# Altium integrated library ISSI SRAM Synchronous SRAM No-Wait(ZBT).IntLib: 1246 symbols (part 43 of 152)
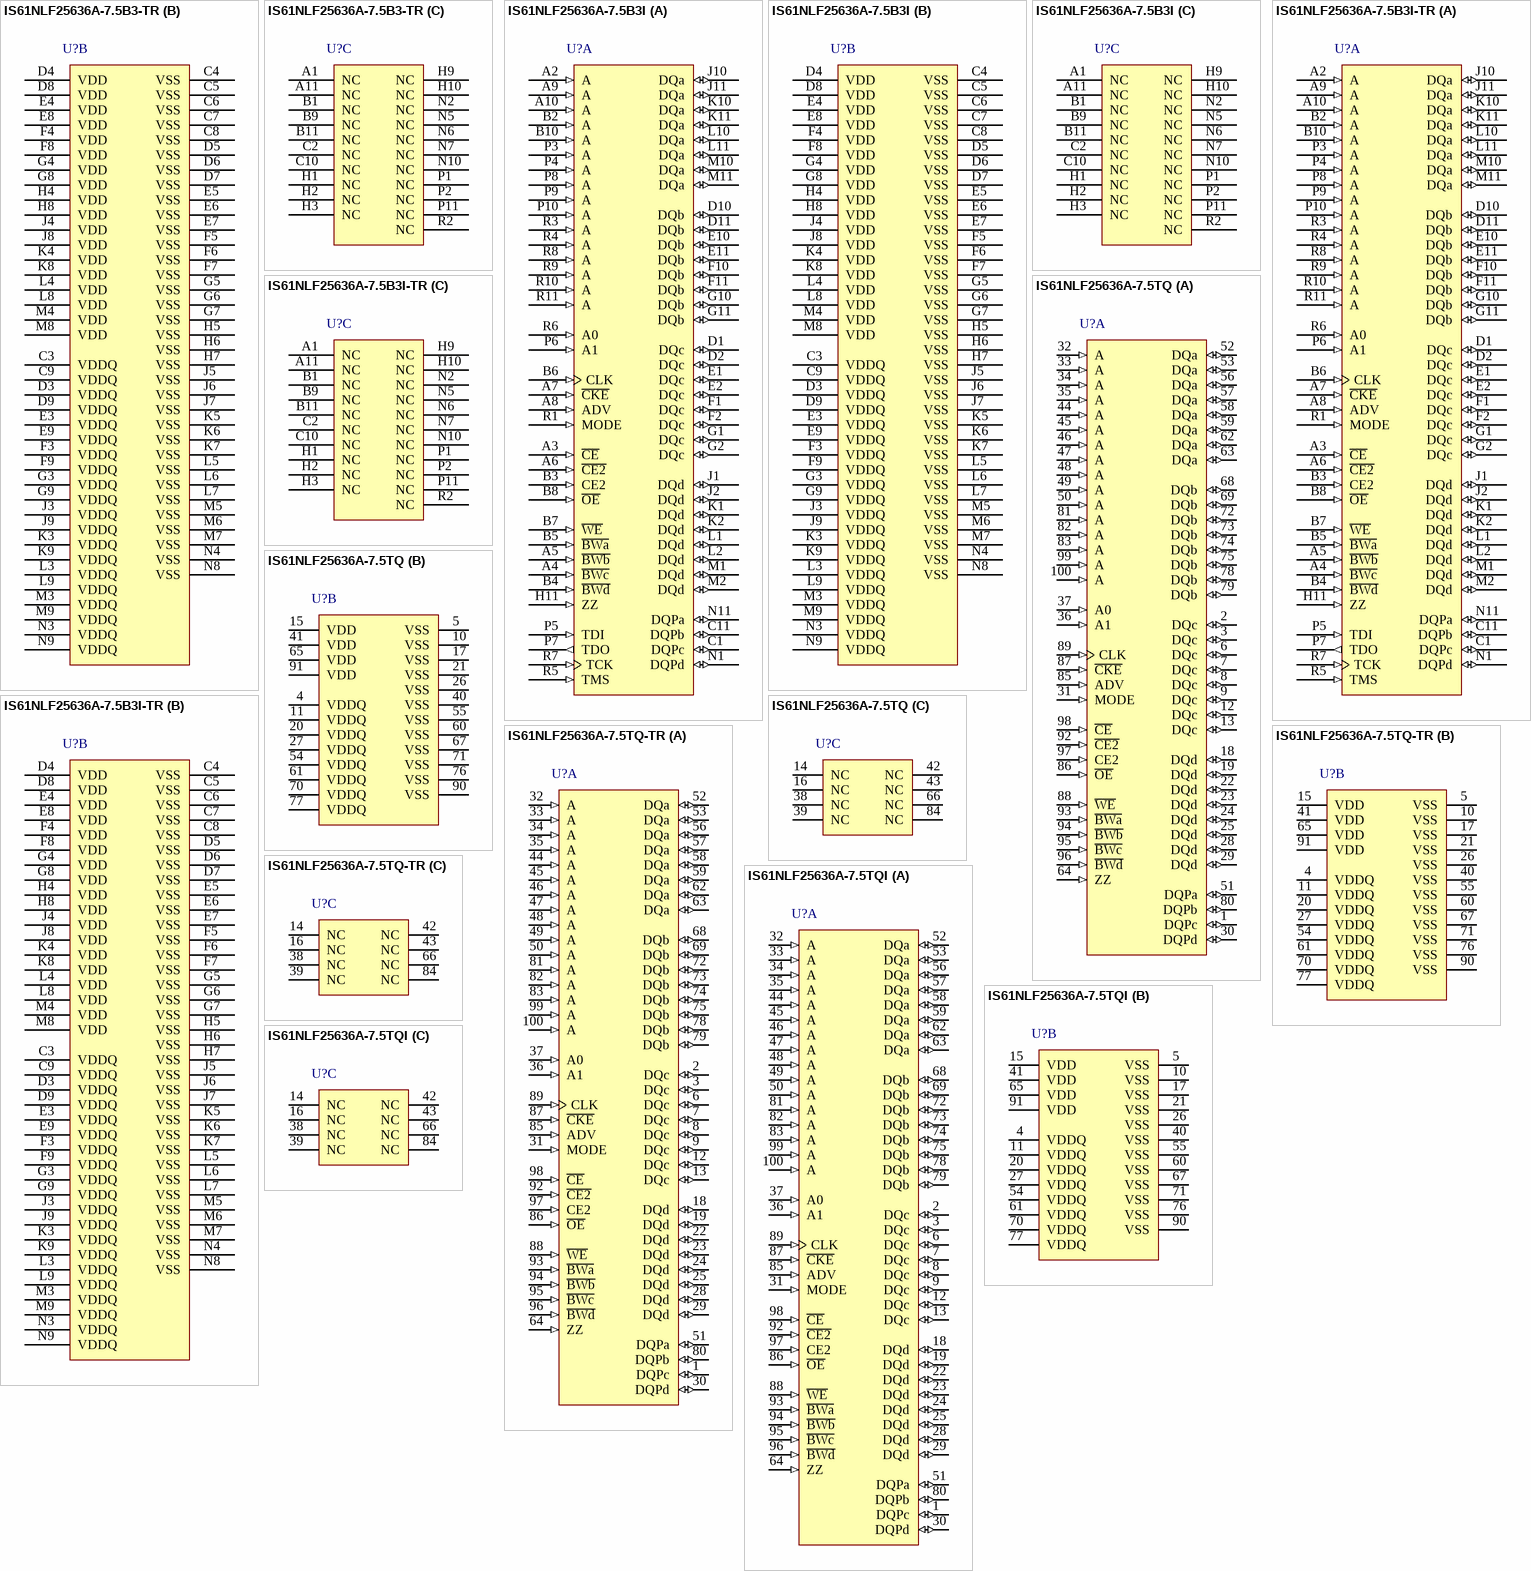
[diagram p259: symbols IS61NLF25636A-7.5B3-TR to IS61NLF25636A-7.5TQI]

## IS61NLF25636A-7.5TQ
designator U?
9 M Flow Through 'No Wait' State Bus SRAM, 256 K x 36, 0 to 70 degC, 100-Pin QFP (TQFP-100); Manufacturer: Integrated Silicon Solution Inc (ISSI); PartNumber: IS61NLF25636A-7.5TQ; Density: 9M; Packing: Tube / Tray; Vcc: 3.3 V; VccQ: 2.5 / 3.3 V; DatasheetVersion: Rev. F; PackageVersion: Rev. F, 09/2009; PackageReference: TQFP-100; PackageDescription: 100-Pin 20 x 14 mm LQFP, Pitch 0.65 mm; Organization: 256Kx36; Mounting Technology: Surface Mount; ComponentLink1Description: Manufacturer URL; ComponentLink1URL: http://www.issi.com/US/index.shtml; ComponentLink2Description: Datasheet; ComponentLink2URL: http://www.issi.com/WW/pdf/61NLF_NVF25636A_51218A.pdf; ComponentLink3Description: Package Specification; ComponentLink3URL: http://www.issi.com/WW/pdf/61VPS_LPS25636A_51218A.pdf
footprint ISSI-TQFP-100-20000X14000DE_N (QFP, 100-Leads, Body 20x14mm, Pitch 0.65mm, IPC Medium Density)
part A pins: 1 DQPc (io) "Parity Data I/O", 2 DQc (io) "Synchronous Data Input/Output", 3 DQc (io) "Synchronous Data Input/Output", 6 DQc (io) "Synchronous Data Input/Output", 7 DQc (io) "Synchronous Data Input/Output", 8 DQc (io) "Synchronous Data Input/Output", 9 DQc (io) "Synchronous Data Input/Output", 12 DQc (io) "Synchronous Data Input/Output", 13 DQc (io) "Synchronous Data Input/Output", 18 DQd (io) "Synchronous Data Input/Output", 19 DQd (io) "Synchronous Data Input/Output", 22 DQd (io) "Synchronous Data Input/Output", 23 DQd (io) "Synchronous Data Input/Output", 24 DQd (io) "Synchronous Data Input/Output", 25 DQd (io) "Synchronous Data Input/Output", 28 DQd (io) "Synchronous Data Input/Output", 29 DQd (io) "Synchronous Data Input/Output", 30 DQPd (io) "Parity Data I/O", 31 MODE (in) "Burst Sequence Selection", 32 A (in) "Synchronous Address Inputs", 33 A (in) "Synchronous Address Inputs", 34 A (in) "Synchronous Address Inputs", 35 A (in) "Synchronous Address Inputs", 36 A1 (in) "Synchronous Address Inputs. These pins must tied to the two LSBs of the address bus.", 37 A0 (in) "Synchronous Address Inputs. These pins must tied to the two LSBs of the address bus.", 44 A (in) "Synchronous Address Inputs", 45 A (in) "Synchronous Address Inputs", 46 A (in) "Synchronous Address Inputs", 47 A (in) "Synchronous Address Inputs", 48 A (in) "Synchronous Address Inputs", 49 A (in) "Synchronous Address Inputs", 50 A (in) "Synchronous Address Inputs", 51 DQPa (io) "Parity Data I/O", 52 DQa (io) "Synchronous Data Input/Output", 53 DQa (io) "Synchronous Data Input/Output", 56 DQa (io) "Synchronous Data Input/Output", 57 DQa (io) "Synchronous Data Input/Output", 58 DQa (io) "Synchronous Data Input/Output", 59 DQa (io) "Synchronous Data Input/Output", 62 DQa (io) "Synchronous Data Input/Output", 63 DQa (io) "Synchronous Data Input/Output", 64 ZZ (in) "Snooze Enable", 68 DQb (io) "Synchronous Data Input/Output", 69 DQb (io) "Synchronous Data Input/Output", 72 DQb (io) "Synchronous Data Input/Output", 73 DQb (io) "Synchronous Data Input/Output", 74 DQb (io) "Synchronous Data Input/Output", 75 DQb (io) "Synchronous Data Input/Output", 78 DQb (io) "Synchronous Data Input/Output", 79 DQb (io) "Synchronous Data Input/Output", 80 DQPb (io) "Parity Data I/O", 81 A (in) "Synchronous Address Inputs", 82 A (in) "Synchronous Address Inputs", 83 A (in) "Synchronous Address Inputs", 85 ADV (in) "Synchronous Burst Address Advance", 86 ~{OE} (in) "Output Enable", 87 ~{CKE} (in) "Clock Enable", 88 ~{WE} (in) "Write Enable", 89 CLK (in) "Synchronous Clock", 92 ~{CE2} (in) "Synchronous Chip Enable", 93 ~{BWa} (in) "Synchronous Byte Write Enable", 94 ~{BWb} (in) "Synchronous Byte Write Enable", 95 ~{BWc} (in) "Synchronous Byte Write Enable", 96 ~{BWd} (in) "Synchronous Byte Write Enable", 97 CE2 (in) "Synchronous Chip Enable", 98 ~{CE} (in) "Synchronous Chip Enable", 99 A (in) "Synchronous Address Inputs", 100 A (in) "Synchronous Address Inputs"
part B pins: 4 VDDQ (power) "Isolated Output Buffer Supply: +3.3V/2.5V", 5 VSS (power), 10 VSS (power), 11 VDDQ (power) "Isolated Output Buffer Supply: +3.3V/2.5V", 15 VDD (power) "+3.3V/2.5V Power Supply", 17 VSS (power), 20 VDDQ (power) "Isolated Output Buffer Supply: +3.3V/2.5V", 21 VSS (power), 26 VSS (power), 27 VDDQ (power) "Isolated Output Buffer Supply: +3.3V/2.5V", 40 VSS (power), 41 VDD (power) "+3.3V/2.5V Power Supply", 54 VDDQ (power) "Isolated Output Buffer Supply: +3.3V/2.5V", 55 VSS (power), 60 VSS (power), 61 VDDQ (power) "Isolated Output Buffer Supply: +3.3V/2.5V", 65 VDD (power) "+3.3V/2.5V Power Supply", 67 VSS (power), 70 VDDQ (power) "Isolated Output Buffer Supply: +3.3V/2.5V", 71 VSS (power), 76 VSS (power), 77 VDDQ (power) "Isolated Output Buffer Supply: +3.3V/2.5V", 90 VSS (power), 91 VDD (power) "+3.3V/2.5V Power Supply"
part C pins: 14 NC "Not Connected", 16 NC "Not Connected", 38 NC "Not Connected", 39 NC "Not Connected", 42 NC "Not Connected", 43 NC "Not Connected", 66 NC "Not Connected", 84 NC "Not Connected"

## IS61NLF25636A-7.5TQ-TR
designator U?
9 M Flow Through 'No Wait' State Bus SRAM, 256 K x 36, 0 to 70 degC, 100-Pin QFP (TQFP-100); Manufacturer: Integrated Silicon Solution Inc (ISSI); PartNumber: IS61NLF25636A-7.5TQ-TR; Density: 9M; Packing: Tape & Reel; Vcc: 3.3 V; VccQ: 2.5 / 3.3 V; DatasheetVersion: Rev. F; PackageVersion: Rev. F, 09/2009; PackageReference: TQFP-100; PackageDescription: 100-Pin 20 x 14 mm LQFP, Pitch 0.65 mm; Organization: 256Kx36; Mounting Technology: Surface Mount; ComponentLink1Description: Manufacturer URL; ComponentLink1URL: http://www.issi.com/US/index.shtml; ComponentLink2Description: Datasheet; ComponentLink2URL: http://www.issi.com/WW/pdf/61NLF_NVF25636A_51218A.pdf; ComponentLink3Description: Package Specification; ComponentLink3URL: http://www.issi.com/WW/pdf/61VPS_LPS25636A_51218A.pdf
footprint ISSI-TQFP-100-20000X14000DE_N (QFP, 100-Leads, Body 20x14mm, Pitch 0.65mm, IPC Medium Density)
part A pins: 1 DQPc (io) "Parity Data I/O", 2 DQc (io) "Synchronous Data Input/Output", 3 DQc (io) "Synchronous Data Input/Output", 6 DQc (io) "Synchronous Data Input/Output", 7 DQc (io) "Synchronous Data Input/Output", 8 DQc (io) "Synchronous Data Input/Output", 9 DQc (io) "Synchronous Data Input/Output", 12 DQc (io) "Synchronous Data Input/Output", 13 DQc (io) "Synchronous Data Input/Output", 18 DQd (io) "Synchronous Data Input/Output", 19 DQd (io) "Synchronous Data Input/Output", 22 DQd (io) "Synchronous Data Input/Output", 23 DQd (io) "Synchronous Data Input/Output", 24 DQd (io) "Synchronous Data Input/Output", 25 DQd (io) "Synchronous Data Input/Output", 28 DQd (io) "Synchronous Data Input/Output", 29 DQd (io) "Synchronous Data Input/Output", 30 DQPd (io) "Parity Data I/O", 31 MODE (in) "Burst Sequence Selection", 32 A (in) "Synchronous Address Inputs", 33 A (in) "Synchronous Address Inputs", 34 A (in) "Synchronous Address Inputs", 35 A (in) "Synchronous Address Inputs", 36 A1 (in) "Synchronous Address Inputs. These pins must tied to the two LSBs of the address bus.", 37 A0 (in) "Synchronous Address Inputs. These pins must tied to the two LSBs of the address bus.", 44 A (in) "Synchronous Address Inputs", 45 A (in) "Synchronous Address Inputs", 46 A (in) "Synchronous Address Inputs", 47 A (in) "Synchronous Address Inputs", 48 A (in) "Synchronous Address Inputs", 49 A (in) "Synchronous Address Inputs", 50 A (in) "Synchronous Address Inputs", 51 DQPa (io) "Parity Data I/O", 52 DQa (io) "Synchronous Data Input/Output", 53 DQa (io) "Synchronous Data Input/Output", 56 DQa (io) "Synchronous Data Input/Output", 57 DQa (io) "Synchronous Data Input/Output", 58 DQa (io) "Synchronous Data Input/Output", 59 DQa (io) "Synchronous Data Input/Output", 62 DQa (io) "Synchronous Data Input/Output", 63 DQa (io) "Synchronous Data Input/Output", 64 ZZ (in) "Snooze Enable", 68 DQb (io) "Synchronous Data Input/Output", 69 DQb (io) "Synchronous Data Input/Output", 72 DQb (io) "Synchronous Data Input/Output", 73 DQb (io) "Synchronous Data Input/Output", 74 DQb (io) "Synchronous Data Input/Output", 75 DQb (io) "Synchronous Data Input/Output", 78 DQb (io) "Synchronous Data Input/Output", 79 DQb (io) "Synchronous Data Input/Output", 80 DQPb (io) "Parity Data I/O", 81 A (in) "Synchronous Address Inputs", 82 A (in) "Synchronous Address Inputs", 83 A (in) "Synchronous Address Inputs", 85 ADV (in) "Synchronous Burst Address Advance", 86 ~{OE} (in) "Output Enable", 87 ~{CKE} (in) "Clock Enable", 88 ~{WE} (in) "Write Enable", 89 CLK (in) "Synchronous Clock", 92 ~{CE2} (in) "Synchronous Chip Enable", 93 ~{BWa} (in) "Synchronous Byte Write Enable", 94 ~{BWb} (in) "Synchronous Byte Write Enable", 95 ~{BWc} (in) "Synchronous Byte Write Enable", 96 ~{BWd} (in) "Synchronous Byte Write Enable", 97 CE2 (in) "Synchronous Chip Enable", 98 ~{CE} (in) "Synchronous Chip Enable", 99 A (in) "Synchronous Address Inputs", 100 A (in) "Synchronous Address Inputs"
part B pins: 4 VDDQ (power) "Isolated Output Buffer Supply: +3.3V/2.5V", 5 VSS (power), 10 VSS (power), 11 VDDQ (power) "Isolated Output Buffer Supply: +3.3V/2.5V", 15 VDD (power) "+3.3V/2.5V Power Supply", 17 VSS (power), 20 VDDQ (power) "Isolated Output Buffer Supply: +3.3V/2.5V", 21 VSS (power), 26 VSS (power), 27 VDDQ (power) "Isolated Output Buffer Supply: +3.3V/2.5V", 40 VSS (power), 41 VDD (power) "+3.3V/2.5V Power Supply", 54 VDDQ (power) "Isolated Output Buffer Supply: +3.3V/2.5V", 55 VSS (power), 60 VSS (power), 61 VDDQ (power) "Isolated Output Buffer Supply: +3.3V/2.5V", 65 VDD (power) "+3.3V/2.5V Power Supply", 67 VSS (power), 70 VDDQ (power) "Isolated Output Buffer Supply: +3.3V/2.5V", 71 VSS (power), 76 VSS (power), 77 VDDQ (power) "Isolated Output Buffer Supply: +3.3V/2.5V", 90 VSS (power), 91 VDD (power) "+3.3V/2.5V Power Supply"
part C pins: 14 NC "Not Connected", 16 NC "Not Connected", 38 NC "Not Connected", 39 NC "Not Connected", 42 NC "Not Connected", 43 NC "Not Connected", 66 NC "Not Connected", 84 NC "Not Connected"

## IS61NLF25636A-7.5TQI
designator U?
9 M Flow Through 'No Wait' State Bus SRAM, 256 K x 36, -40 to 85 degC, 100-Pin QFP (TQFP-100); Manufacturer: Integrated Silicon Solution Inc (ISSI); PartNumber: IS61NLF25636A-7.5TQI; Density: 9M; Packing: Tube / Tray; Vcc: 3.3 V; VccQ: 2.5 / 3.3 V; DatasheetVersion: Rev. F; PackageVersion: Rev. F, 09/2009; PackageReference: TQFP-100; PackageDescription: 100-Pin 20 x 14 mm LQFP, Pitch 0.65 mm; Supplier 1: Digi-Key; Supplier Part Number 1: IS61NLF25636A-7.5TQI-ND; Supplier 2: Mouser; Supplier Part Number 2: 87061NLF25636A75TQI; Organization: 256Kx36; Mounting Technology: Surface Mount; ComponentLink1Description: Manufacturer URL; ComponentLink1URL: http://www.issi.com/US/index.shtml; ComponentLink2Description: Datasheet; ComponentLink2URL: http://www.issi.com/WW/pdf/61NLF_NVF25636A_51218A.pdf; ComponentLink3Description: Package Specification; ComponentLink3URL: http://www.issi.com/WW/pdf/61VPS_LPS25636A_51218A.pdf
footprint ISSI-TQFP-100-20000X14000DE_N (QFP, 100-Leads, Body 20x14mm, Pitch 0.65mm, IPC Medium Density)
part A pins: 1 DQPc (io) "Parity Data I/O", 2 DQc (io) "Synchronous Data Input/Output", 3 DQc (io) "Synchronous Data Input/Output", 6 DQc (io) "Synchronous Data Input/Output", 7 DQc (io) "Synchronous Data Input/Output", 8 DQc (io) "Synchronous Data Input/Output", 9 DQc (io) "Synchronous Data Input/Output", 12 DQc (io) "Synchronous Data Input/Output", 13 DQc (io) "Synchronous Data Input/Output", 18 DQd (io) "Synchronous Data Input/Output", 19 DQd (io) "Synchronous Data Input/Output", 22 DQd (io) "Synchronous Data Input/Output", 23 DQd (io) "Synchronous Data Input/Output", 24 DQd (io) "Synchronous Data Input/Output", 25 DQd (io) "Synchronous Data Input/Output", 28 DQd (io) "Synchronous Data Input/Output", 29 DQd (io) "Synchronous Data Input/Output", 30 DQPd (io) "Parity Data I/O", 31 MODE (in) "Burst Sequence Selection", 32 A (in) "Synchronous Address Inputs", 33 A (in) "Synchronous Address Inputs", 34 A (in) "Synchronous Address Inputs", 35 A (in) "Synchronous Address Inputs", 36 A1 (in) "Synchronous Address Inputs. These pins must tied to the two LSBs of the address bus.", 37 A0 (in) "Synchronous Address Inputs. These pins must tied to the two LSBs of the address bus.", 44 A (in) "Synchronous Address Inputs", 45 A (in) "Synchronous Address Inputs", 46 A (in) "Synchronous Address Inputs", 47 A (in) "Synchronous Address Inputs", 48 A (in) "Synchronous Address Inputs", 49 A (in) "Synchronous Address Inputs", 50 A (in) "Synchronous Address Inputs", 51 DQPa (io) "Parity Data I/O", 52 DQa (io) "Synchronous Data Input/Output", 53 DQa (io) "Synchronous Data Input/Output", 56 DQa (io) "Synchronous Data Input/Output", 57 DQa (io) "Synchronous Data Input/Output", 58 DQa (io) "Synchronous Data Input/Output", 59 DQa (io) "Synchronous Data Input/Output", 62 DQa (io) "Synchronous Data Input/Output", 63 DQa (io) "Synchronous Data Input/Output", 64 ZZ (in) "Snooze Enable", 68 DQb (io) "Synchronous Data Input/Output", 69 DQb (io) "Synchronous Data Input/Output", 72 DQb (io) "Synchronous Data Input/Output", 73 DQb (io) "Synchronous Data Input/Output", 74 DQb (io) "Synchronous Data Input/Output", 75 DQb (io) "Synchronous Data Input/Output", 78 DQb (io) "Synchronous Data Input/Output", 79 DQb (io) "Synchronous Data Input/Output", 80 DQPb (io) "Parity Data I/O", 81 A (in) "Synchronous Address Inputs", 82 A (in) "Synchronous Address Inputs", 83 A (in) "Synchronous Address Inputs", 85 ADV (in) "Synchronous Burst Address Advance", 86 ~{OE} (in) "Output Enable", 87 ~{CKE} (in) "Clock Enable", 88 ~{WE} (in) "Write Enable", 89 CLK (in) "Synchronous Clock", 92 ~{CE2} (in) "Synchronous Chip Enable", 93 ~{BWa} (in) "Synchronous Byte Write Enable", 94 ~{BWb} (in) "Synchronous Byte Write Enable", 95 ~{BWc} (in) "Synchronous Byte Write Enable", 96 ~{BWd} (in) "Synchronous Byte Write Enable", 97 CE2 (in) "Synchronous Chip Enable", 98 ~{CE} (in) "Synchronous Chip Enable", 99 A (in) "Synchronous Address Inputs", 100 A (in) "Synchronous Address Inputs"
part B pins: 4 VDDQ (power) "Isolated Output Buffer Supply: +3.3V/2.5V", 5 VSS (power), 10 VSS (power), 11 VDDQ (power) "Isolated Output Buffer Supply: +3.3V/2.5V", 15 VDD (power) "+3.3V/2.5V Power Supply", 17 VSS (power), 20 VDDQ (power) "Isolated Output Buffer Supply: +3.3V/2.5V", 21 VSS (power), 26 VSS (power), 27 VDDQ (power) "Isolated Output Buffer Supply: +3.3V/2.5V", 40 VSS (power), 41 VDD (power) "+3.3V/2.5V Power Supply", 54 VDDQ (power) "Isolated Output Buffer Supply: +3.3V/2.5V", 55 VSS (power), 60 VSS (power), 61 VDDQ (power) "Isolated Output Buffer Supply: +3.3V/2.5V", 65 VDD (power) "+3.3V/2.5V Power Supply", 67 VSS (power), 70 VDDQ (power) "Isolated Output Buffer Supply: +3.3V/2.5V", 71 VSS (power), 76 VSS (power), 77 VDDQ (power) "Isolated Output Buffer Supply: +3.3V/2.5V", 90 VSS (power), 91 VDD (power) "+3.3V/2.5V Power Supply"
part C pins: 14 NC "Not Connected", 16 NC "Not Connected", 38 NC "Not Connected", 39 NC "Not Connected", 42 NC "Not Connected", 43 NC "Not Connected", 66 NC "Not Connected", 84 NC "Not Connected"

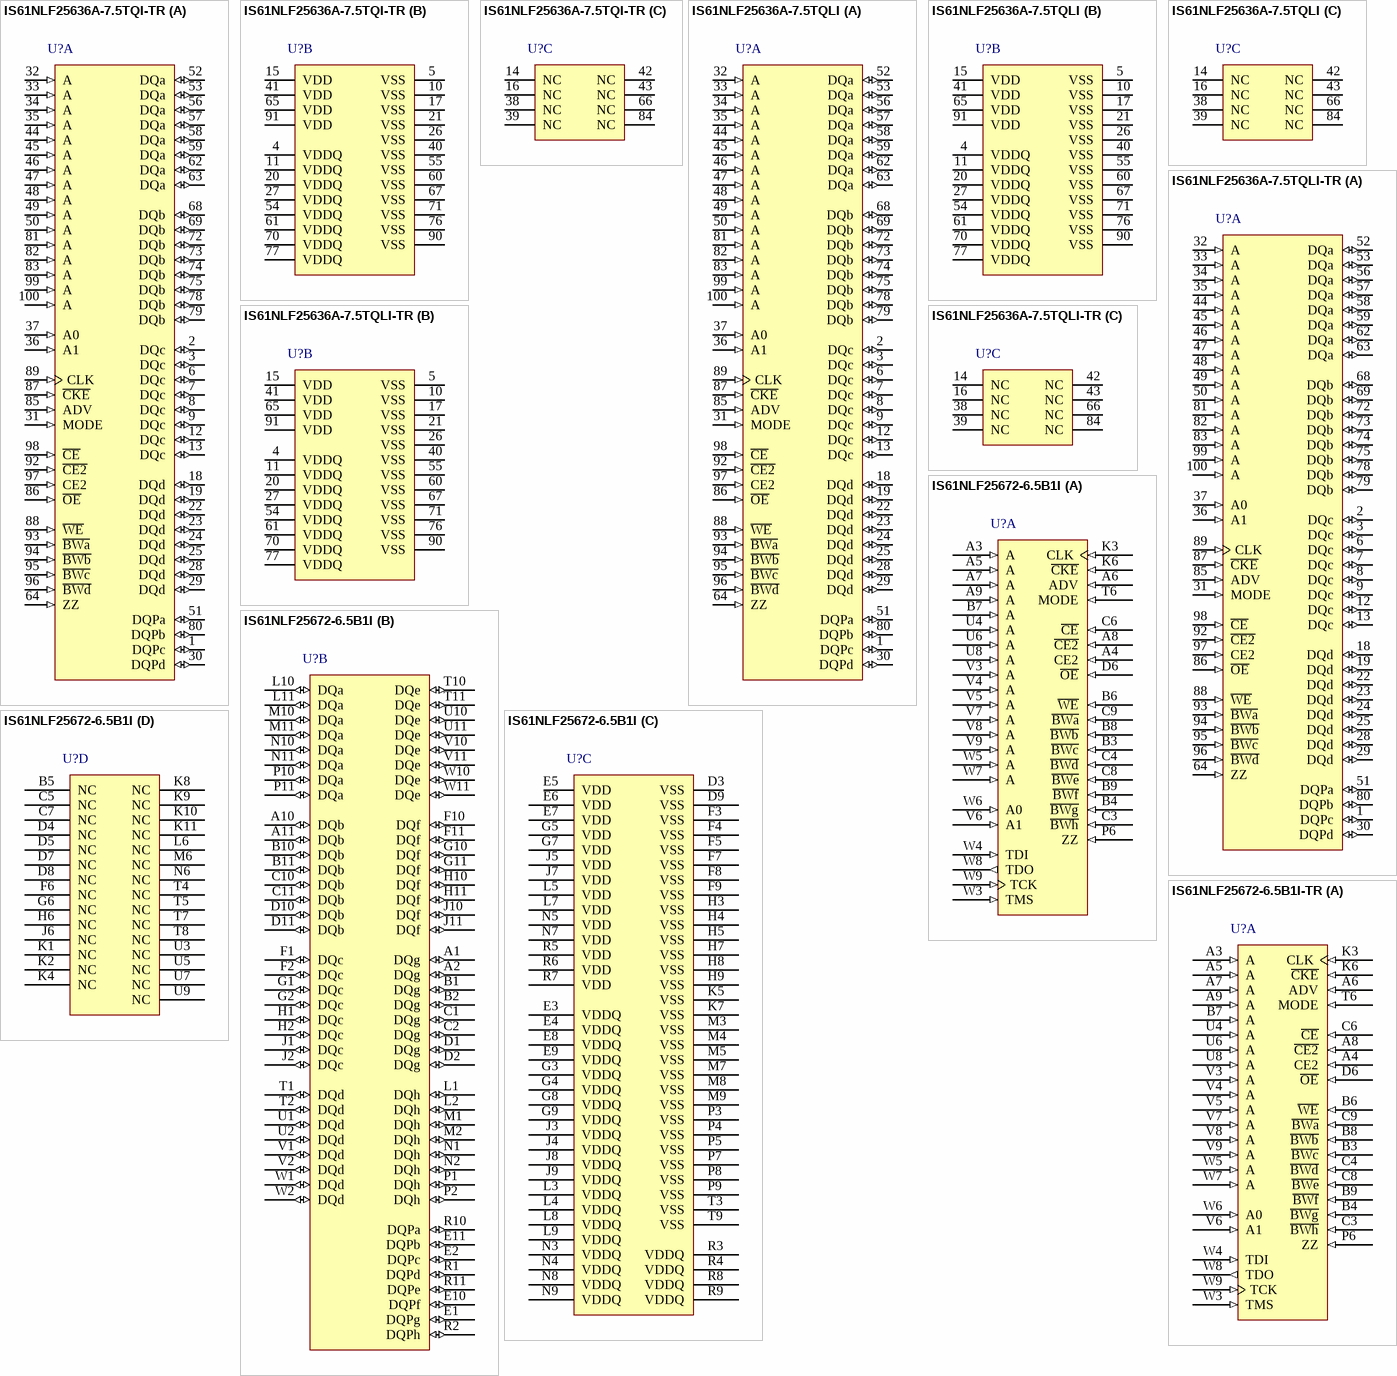
[diagram p43: symbols IS61NLF25636A-7.5TQI-TR to IS61NLF25672-6.5B1I-TR]

## IS61NLF25636A-7.5TQI-TR
designator U?
9 M Flow Through 'No Wait' State Bus SRAM, 256 K x 36, -40 to 85 degC, 100-Pin QFP (TQFP-100); Manufacturer: Integrated Silicon Solution Inc (ISSI); PartNumber: IS61NLF25636A-7.5TQI-TR; Density: 9M; Packing: Tape & Reel; Vcc: 3.3 V; VccQ: 2.5 / 3.3 V; DatasheetVersion: Rev. F; PackageVersion: Rev. F, 09/2009; PackageReference: TQFP-100; PackageDescription: 100-Pin 20 x 14 mm LQFP, Pitch 0.65 mm; Supplier 1: Digi-Key; Supplier Part Number 1: IS61NLF25636A-7.5TQI-TR-ND; Supplier 2: Mouser; Supplier Part Number 2: 87061NLF25636A75TQIT; Organization: 256Kx36; Mounting Technology: Surface Mount; ComponentLink1Description: Manufacturer URL; ComponentLink1URL: http://www.issi.com/US/index.shtml; ComponentLink2Description: Datasheet; ComponentLink2URL: http://www.issi.com/WW/pdf/61NLF_NVF25636A_51218A.pdf; ComponentLink3Description: Package Specification; ComponentLink3URL: http://www.issi.com/WW/pdf/61VPS_LPS25636A_51218A.pdf
footprint ISSI-TQFP-100-20000X14000DE_N (QFP, 100-Leads, Body 20x14mm, Pitch 0.65mm, IPC Medium Density)
part A pins: 1 DQPc (io) "Parity Data I/O", 2 DQc (io) "Synchronous Data Input/Output", 3 DQc (io) "Synchronous Data Input/Output", 6 DQc (io) "Synchronous Data Input/Output", 7 DQc (io) "Synchronous Data Input/Output", 8 DQc (io) "Synchronous Data Input/Output", 9 DQc (io) "Synchronous Data Input/Output", 12 DQc (io) "Synchronous Data Input/Output", 13 DQc (io) "Synchronous Data Input/Output", 18 DQd (io) "Synchronous Data Input/Output", 19 DQd (io) "Synchronous Data Input/Output", 22 DQd (io) "Synchronous Data Input/Output", 23 DQd (io) "Synchronous Data Input/Output", 24 DQd (io) "Synchronous Data Input/Output", 25 DQd (io) "Synchronous Data Input/Output", 28 DQd (io) "Synchronous Data Input/Output", 29 DQd (io) "Synchronous Data Input/Output", 30 DQPd (io) "Parity Data I/O", 31 MODE (in) "Burst Sequence Selection", 32 A (in) "Synchronous Address Inputs", 33 A (in) "Synchronous Address Inputs", 34 A (in) "Synchronous Address Inputs", 35 A (in) "Synchronous Address Inputs", 36 A1 (in) "Synchronous Address Inputs. These pins must tied to the two LSBs of the address bus.", 37 A0 (in) "Synchronous Address Inputs. These pins must tied to the two LSBs of the address bus.", 44 A (in) "Synchronous Address Inputs", 45 A (in) "Synchronous Address Inputs", 46 A (in) "Synchronous Address Inputs", 47 A (in) "Synchronous Address Inputs", 48 A (in) "Synchronous Address Inputs", 49 A (in) "Synchronous Address Inputs", 50 A (in) "Synchronous Address Inputs", 51 DQPa (io) "Parity Data I/O", 52 DQa (io) "Synchronous Data Input/Output", 53 DQa (io) "Synchronous Data Input/Output", 56 DQa (io) "Synchronous Data Input/Output", 57 DQa (io) "Synchronous Data Input/Output", 58 DQa (io) "Synchronous Data Input/Output", 59 DQa (io) "Synchronous Data Input/Output", 62 DQa (io) "Synchronous Data Input/Output", 63 DQa (io) "Synchronous Data Input/Output", 64 ZZ (in) "Snooze Enable", 68 DQb (io) "Synchronous Data Input/Output", 69 DQb (io) "Synchronous Data Input/Output", 72 DQb (io) "Synchronous Data Input/Output", 73 DQb (io) "Synchronous Data Input/Output", 74 DQb (io) "Synchronous Data Input/Output", 75 DQb (io) "Synchronous Data Input/Output", 78 DQb (io) "Synchronous Data Input/Output", 79 DQb (io) "Synchronous Data Input/Output", 80 DQPb (io) "Parity Data I/O", 81 A (in) "Synchronous Address Inputs", 82 A (in) "Synchronous Address Inputs", 83 A (in) "Synchronous Address Inputs", 85 ADV (in) "Synchronous Burst Address Advance", 86 ~{OE} (in) "Output Enable", 87 ~{CKE} (in) "Clock Enable", 88 ~{WE} (in) "Write Enable", 89 CLK (in) "Synchronous Clock", 92 ~{CE2} (in) "Synchronous Chip Enable", 93 ~{BWa} (in) "Synchronous Byte Write Enable", 94 ~{BWb} (in) "Synchronous Byte Write Enable", 95 ~{BWc} (in) "Synchronous Byte Write Enable", 96 ~{BWd} (in) "Synchronous Byte Write Enable", 97 CE2 (in) "Synchronous Chip Enable", 98 ~{CE} (in) "Synchronous Chip Enable", 99 A (in) "Synchronous Address Inputs", 100 A (in) "Synchronous Address Inputs"
part B pins: 4 VDDQ (power) "Isolated Output Buffer Supply: +3.3V/2.5V", 5 VSS (power), 10 VSS (power), 11 VDDQ (power) "Isolated Output Buffer Supply: +3.3V/2.5V", 15 VDD (power) "+3.3V/2.5V Power Supply", 17 VSS (power), 20 VDDQ (power) "Isolated Output Buffer Supply: +3.3V/2.5V", 21 VSS (power), 26 VSS (power), 27 VDDQ (power) "Isolated Output Buffer Supply: +3.3V/2.5V", 40 VSS (power), 41 VDD (power) "+3.3V/2.5V Power Supply", 54 VDDQ (power) "Isolated Output Buffer Supply: +3.3V/2.5V", 55 VSS (power), 60 VSS (power), 61 VDDQ (power) "Isolated Output Buffer Supply: +3.3V/2.5V", 65 VDD (power) "+3.3V/2.5V Power Supply", 67 VSS (power), 70 VDDQ (power) "Isolated Output Buffer Supply: +3.3V/2.5V", 71 VSS (power), 76 VSS (power), 77 VDDQ (power) "Isolated Output Buffer Supply: +3.3V/2.5V", 90 VSS (power), 91 VDD (power) "+3.3V/2.5V Power Supply"
part C pins: 14 NC "Not Connected", 16 NC "Not Connected", 38 NC "Not Connected", 39 NC "Not Connected", 42 NC "Not Connected", 43 NC "Not Connected", 66 NC "Not Connected", 84 NC "Not Connected"

## IS61NLF25636A-7.5TQLI
designator U?
9 M Flow Through 'No Wait' State Bus SRAM, 256 K x 36, -40 to 85 degC, 100-Pin QFP (TQFP-100), Pb-Free; Manufacturer: Integrated Silicon Solution Inc (ISSI); PartNumber: IS61NLF25636A-7.5TQLI; Density: 9M; Packing: Tube / Tray; Vcc: 3.3 V; VccQ: 2.5 / 3.3 V; DatasheetVersion: Rev. F; PackageVersion: Rev. F, 09/2009; PackageReference: TQFP-100; PackageDescription: 100-Pin 20 x 14 mm LQFP, Pitch 0.65 mm; Supplier 1: Digi-Key; Supplier Part Number 1: IS61NLF25636A-7.5TQLI-ND; Supplier 2: Mouser; Supplier Part Number 2: 87061NLF25636A75TQLI; Organization: 256Kx36; RoHS: Pb-Free; Mounting Technology: Surface Mount; ComponentLink1Description: Manufacturer URL; ComponentLink1URL: http://www.issi.com/US/index.shtml; ComponentLink2Description: Datasheet; ComponentLink2URL: http://www.issi.com/WW/pdf/61NLF_NVF25636A_51218A.pdf; ComponentLink3Description: Package Specification; ComponentLink3URL: http://www.issi.com/WW/pdf/61VPS_LPS25636A_51218A.pdf
footprint ISSI-TQFP-100-20000X14000DE_N (QFP, 100-Leads, Body 20x14mm, Pitch 0.65mm, IPC Medium Density)
part A pins: 1 DQPc (io) "Parity Data I/O", 2 DQc (io) "Synchronous Data Input/Output", 3 DQc (io) "Synchronous Data Input/Output", 6 DQc (io) "Synchronous Data Input/Output", 7 DQc (io) "Synchronous Data Input/Output", 8 DQc (io) "Synchronous Data Input/Output", 9 DQc (io) "Synchronous Data Input/Output", 12 DQc (io) "Synchronous Data Input/Output", 13 DQc (io) "Synchronous Data Input/Output", 18 DQd (io) "Synchronous Data Input/Output", 19 DQd (io) "Synchronous Data Input/Output", 22 DQd (io) "Synchronous Data Input/Output", 23 DQd (io) "Synchronous Data Input/Output", 24 DQd (io) "Synchronous Data Input/Output", 25 DQd (io) "Synchronous Data Input/Output", 28 DQd (io) "Synchronous Data Input/Output", 29 DQd (io) "Synchronous Data Input/Output", 30 DQPd (io) "Parity Data I/O", 31 MODE (in) "Burst Sequence Selection", 32 A (in) "Synchronous Address Inputs", 33 A (in) "Synchronous Address Inputs", 34 A (in) "Synchronous Address Inputs", 35 A (in) "Synchronous Address Inputs", 36 A1 (in) "Synchronous Address Inputs. These pins must tied to the two LSBs of the address bus.", 37 A0 (in) "Synchronous Address Inputs. These pins must tied to the two LSBs of the address bus.", 44 A (in) "Synchronous Address Inputs", 45 A (in) "Synchronous Address Inputs", 46 A (in) "Synchronous Address Inputs", 47 A (in) "Synchronous Address Inputs", 48 A (in) "Synchronous Address Inputs", 49 A (in) "Synchronous Address Inputs", 50 A (in) "Synchronous Address Inputs", 51 DQPa (io) "Parity Data I/O", 52 DQa (io) "Synchronous Data Input/Output", 53 DQa (io) "Synchronous Data Input/Output", 56 DQa (io) "Synchronous Data Input/Output", 57 DQa (io) "Synchronous Data Input/Output", 58 DQa (io) "Synchronous Data Input/Output", 59 DQa (io) "Synchronous Data Input/Output", 62 DQa (io) "Synchronous Data Input/Output", 63 DQa (io) "Synchronous Data Input/Output", 64 ZZ (in) "Snooze Enable", 68 DQb (io) "Synchronous Data Input/Output", 69 DQb (io) "Synchronous Data Input/Output", 72 DQb (io) "Synchronous Data Input/Output", 73 DQb (io) "Synchronous Data Input/Output", 74 DQb (io) "Synchronous Data Input/Output", 75 DQb (io) "Synchronous Data Input/Output", 78 DQb (io) "Synchronous Data Input/Output", 79 DQb (io) "Synchronous Data Input/Output", 80 DQPb (io) "Parity Data I/O", 81 A (in) "Synchronous Address Inputs", 82 A (in) "Synchronous Address Inputs", 83 A (in) "Synchronous Address Inputs", 85 ADV (in) "Synchronous Burst Address Advance", 86 ~{OE} (in) "Output Enable", 87 ~{CKE} (in) "Clock Enable", 88 ~{WE} (in) "Write Enable", 89 CLK (in) "Synchronous Clock", 92 ~{CE2} (in) "Synchronous Chip Enable", 93 ~{BWa} (in) "Synchronous Byte Write Enable", 94 ~{BWb} (in) "Synchronous Byte Write Enable", 95 ~{BWc} (in) "Synchronous Byte Write Enable", 96 ~{BWd} (in) "Synchronous Byte Write Enable", 97 CE2 (in) "Synchronous Chip Enable", 98 ~{CE} (in) "Synchronous Chip Enable", 99 A (in) "Synchronous Address Inputs", 100 A (in) "Synchronous Address Inputs"
part B pins: 4 VDDQ (power) "Isolated Output Buffer Supply: +3.3V/2.5V", 5 VSS (power), 10 VSS (power), 11 VDDQ (power) "Isolated Output Buffer Supply: +3.3V/2.5V", 15 VDD (power) "+3.3V/2.5V Power Supply", 17 VSS (power), 20 VDDQ (power) "Isolated Output Buffer Supply: +3.3V/2.5V", 21 VSS (power), 26 VSS (power), 27 VDDQ (power) "Isolated Output Buffer Supply: +3.3V/2.5V", 40 VSS (power), 41 VDD (power) "+3.3V/2.5V Power Supply", 54 VDDQ (power) "Isolated Output Buffer Supply: +3.3V/2.5V", 55 VSS (power), 60 VSS (power), 61 VDDQ (power) "Isolated Output Buffer Supply: +3.3V/2.5V", 65 VDD (power) "+3.3V/2.5V Power Supply", 67 VSS (power), 70 VDDQ (power) "Isolated Output Buffer Supply: +3.3V/2.5V", 71 VSS (power), 76 VSS (power), 77 VDDQ (power) "Isolated Output Buffer Supply: +3.3V/2.5V", 90 VSS (power), 91 VDD (power) "+3.3V/2.5V Power Supply"
part C pins: 14 NC "Not Connected", 16 NC "Not Connected", 38 NC "Not Connected", 39 NC "Not Connected", 42 NC "Not Connected", 43 NC "Not Connected", 66 NC "Not Connected", 84 NC "Not Connected"

## IS61NLF25636A-7.5TQLI-TR
designator U?
9 M Flow Through 'No Wait' State Bus SRAM, 256 K x 36, -40 to 85 degC, 100-Pin QFP (TQFP-100), Pb-Free; Manufacturer: Integrated Silicon Solution Inc (ISSI); PartNumber: IS61NLF25636A-7.5TQLI-TR; Density: 9M; Packing: Tape & Reel; Vcc: 3.3 V; VccQ: 2.5 / 3.3 V; DatasheetVersion: Rev. F; PackageVersion: Rev. F, 09/2009; PackageReference: TQFP-100; PackageDescription: 100-Pin 20 x 14 mm LQFP, Pitch 0.65 mm; Supplier 1: Digi-Key; Supplier Part Number 1: IS61NLF25636A-7.5TQLI-TR-ND; Supplier 2: Mouser; Supplier Part Number 2: 870NLF25636A75TQLIT; Organization: 256Kx36; RoHS: Pb-Free; Mounting Technology: Surface Mount; ComponentLink1Description: Manufacturer URL; ComponentLink1URL: http://www.issi.com/US/index.shtml; ComponentLink2Description: Datasheet; ComponentLink2URL: http://www.issi.com/WW/pdf/61NLF_NVF25636A_51218A.pdf; ComponentLink3Description: Package Specification; ComponentLink3URL: http://www.issi.com/WW/pdf/61VPS_LPS25636A_51218A.pdf
footprint ISSI-TQFP-100-20000X14000DE_N (QFP, 100-Leads, Body 20x14mm, Pitch 0.65mm, IPC Medium Density)
part A pins: 1 DQPc (io) "Parity Data I/O", 2 DQc (io) "Synchronous Data Input/Output", 3 DQc (io) "Synchronous Data Input/Output", 6 DQc (io) "Synchronous Data Input/Output", 7 DQc (io) "Synchronous Data Input/Output", 8 DQc (io) "Synchronous Data Input/Output", 9 DQc (io) "Synchronous Data Input/Output", 12 DQc (io) "Synchronous Data Input/Output", 13 DQc (io) "Synchronous Data Input/Output", 18 DQd (io) "Synchronous Data Input/Output", 19 DQd (io) "Synchronous Data Input/Output", 22 DQd (io) "Synchronous Data Input/Output", 23 DQd (io) "Synchronous Data Input/Output", 24 DQd (io) "Synchronous Data Input/Output", 25 DQd (io) "Synchronous Data Input/Output", 28 DQd (io) "Synchronous Data Input/Output", 29 DQd (io) "Synchronous Data Input/Output", 30 DQPd (io) "Parity Data I/O", 31 MODE (in) "Burst Sequence Selection", 32 A (in) "Synchronous Address Inputs", 33 A (in) "Synchronous Address Inputs", 34 A (in) "Synchronous Address Inputs", 35 A (in) "Synchronous Address Inputs", 36 A1 (in) "Synchronous Address Inputs. These pins must tied to the two LSBs of the address bus.", 37 A0 (in) "Synchronous Address Inputs. These pins must tied to the two LSBs of the address bus.", 44 A (in) "Synchronous Address Inputs", 45 A (in) "Synchronous Address Inputs", 46 A (in) "Synchronous Address Inputs", 47 A (in) "Synchronous Address Inputs", 48 A (in) "Synchronous Address Inputs", 49 A (in) "Synchronous Address Inputs", 50 A (in) "Synchronous Address Inputs", 51 DQPa (io) "Parity Data I/O", 52 DQa (io) "Synchronous Data Input/Output", 53 DQa (io) "Synchronous Data Input/Output", 56 DQa (io) "Synchronous Data Input/Output", 57 DQa (io) "Synchronous Data Input/Output", 58 DQa (io) "Synchronous Data Input/Output", 59 DQa (io) "Synchronous Data Input/Output", 62 DQa (io) "Synchronous Data Input/Output", 63 DQa (io) "Synchronous Data Input/Output", 64 ZZ (in) "Snooze Enable", 68 DQb (io) "Synchronous Data Input/Output", 69 DQb (io) "Synchronous Data Input/Output", 72 DQb (io) "Synchronous Data Input/Output", 73 DQb (io) "Synchronous Data Input/Output", 74 DQb (io) "Synchronous Data Input/Output", 75 DQb (io) "Synchronous Data Input/Output", 78 DQb (io) "Synchronous Data Input/Output", 79 DQb (io) "Synchronous Data Input/Output", 80 DQPb (io) "Parity Data I/O", 81 A (in) "Synchronous Address Inputs", 82 A (in) "Synchronous Address Inputs", 83 A (in) "Synchronous Address Inputs", 85 ADV (in) "Synchronous Burst Address Advance", 86 ~{OE} (in) "Output Enable", 87 ~{CKE} (in) "Clock Enable", 88 ~{WE} (in) "Write Enable", 89 CLK (in) "Synchronous Clock", 92 ~{CE2} (in) "Synchronous Chip Enable", 93 ~{BWa} (in) "Synchronous Byte Write Enable", 94 ~{BWb} (in) "Synchronous Byte Write Enable", 95 ~{BWc} (in) "Synchronous Byte Write Enable", 96 ~{BWd} (in) "Synchronous Byte Write Enable", 97 CE2 (in) "Synchronous Chip Enable", 98 ~{CE} (in) "Synchronous Chip Enable", 99 A (in) "Synchronous Address Inputs", 100 A (in) "Synchronous Address Inputs"
part B pins: 4 VDDQ (power) "Isolated Output Buffer Supply: +3.3V/2.5V", 5 VSS (power), 10 VSS (power), 11 VDDQ (power) "Isolated Output Buffer Supply: +3.3V/2.5V", 15 VDD (power) "+3.3V/2.5V Power Supply", 17 VSS (power), 20 VDDQ (power) "Isolated Output Buffer Supply: +3.3V/2.5V", 21 VSS (power), 26 VSS (power), 27 VDDQ (power) "Isolated Output Buffer Supply: +3.3V/2.5V", 40 VSS (power), 41 VDD (power) "+3.3V/2.5V Power Supply", 54 VDDQ (power) "Isolated Output Buffer Supply: +3.3V/2.5V", 55 VSS (power), 60 VSS (power), 61 VDDQ (power) "Isolated Output Buffer Supply: +3.3V/2.5V", 65 VDD (power) "+3.3V/2.5V Power Supply", 67 VSS (power), 70 VDDQ (power) "Isolated Output Buffer Supply: +3.3V/2.5V", 71 VSS (power), 76 VSS (power), 77 VDDQ (power) "Isolated Output Buffer Supply: +3.3V/2.5V", 90 VSS (power), 91 VDD (power) "+3.3V/2.5V Power Supply"
part C pins: 14 NC "Not Connected", 16 NC "Not Connected", 38 NC "Not Connected", 39 NC "Not Connected", 42 NC "Not Connected", 43 NC "Not Connected", 66 NC "Not Connected", 84 NC "Not Connected"

## IS61NLF25672-6.5B1I
designator U?
18 M Flow Through 'No Wait' State Bus SRAM, 256 K x 72, -40 to 85 degC, 209-Pin BGA (LF-BGA-209); Manufacturer: Integrated Silicon Solution Inc (ISSI); PartNumber: IS61NLF25672-6.5B1I; Density: 18M; Packing: Tube / Tray; Vcc: 3.3 V; VccQ: 2.5 / 3.3 V; DatasheetVersion: Rev. D; PackageVersion: Rev. B, 12/2007; PackageReference: LF-BGA-209; PackageDescription: 209-Pin 14 x 22 mm LF-BGA, Pitch 1 mm; Supplier 1: Mouser; Supplier Part Number 1: N/A; Organization: 256Kx72; Mounting Technology: Surface Mount; ComponentLink1Description: Manufacturer URL; ComponentLink1URL: http://www.issi.com/US/index.shtml; ComponentLink2Description: Datasheet; ComponentLink2URL: http://www.issi.com/WW/pdf/61NLF_NVF25672_51236_102418.pdf; ComponentLink3Description: Package Specification; ComponentLink3URL: http://www.issi.com/WW/pdf/61NLF_NVF25672_51236_102418.pdf
footprint ISSI-LF-BGA-209-14000X22000DE (BGA, 209-Balls, Body 22x14mm, Pitch 1mm)
part A pins: A3 A (in) "Synchronous Address Input", A4 CE2 (in) "Synchronous Chip Enable", A5 A (in) "Synchronous Address Input", A6 ADV (in) "Synchronous Burst Address Advance", A7 A (in) "Synchronous Address Input", A8 ~{CE2} (in) "Synchronous Chip Enable", A9 A (in) "Synchronous Address Input", B3 ~{BWc} (in) "Synchronous Byte Write Enable", B4 ~{BWg} (in) "Synchronous Byte Write Enable", B6 ~{WE} (in) "Write Enable", B7 A (in) "Synchronous Address Input", B8 ~{BWb} (in) "Synchronous Byte Write Enable", B9 ~{BWf} (in) "Synchronous Byte Write Enable", C3 ~{BWh} (in) "Synchronous Byte Write Enable", C4 ~{BWd} (in) "Synchronous Byte Write Enable", C6 ~{CE} (in) "Synchronous Chip Enable", C8 ~{BWe} (in) "Synchronous Byte Write Enable", C9 ~{BWa} (in) "Synchronous Byte Write Enable", D6 ~{OE} (in) "Output Enable", K3 CLK (in) "Synchronous Clock", K6 ~{CKE} (in) "Clock Enable", P6 ZZ (in) "Snooze Enable", T6 MODE (in) "Burst Sequence Selection", U4 A (in) "Synchronous Address Input", U6 A (in) "Synchronous Address Input", U8 A (in) "Synchronous Address Input", V3 A (in) "Synchronous Address Input", V4 A (in) "Synchronous Address Input", V5 A (in) "Synchronous Address Input", V6 A1 (in) "Synchronous Address Input. This pin must tied to the two LSBs of the address bus.", V7 A (in) "Synchronous Address Input", V8 A (in) "Synchronous Address Input", V9 A (in) "Synchronous Address Input", W3 TMS (in) "JTAG Pin", W4 TDI (in) "JTAG Pin", W5 A (in) "Synchronous Address Input", W6 A0 (in) "Synchronous Address Input. This pin must tied to the two LSBs of the address bus.", W7 A (in) "Synchronous Address Input", W8 TDO (out) "JTAG Pin", W9 TCK (in) "JTAG Pin"
part B pins: A1 DQg (io) "Synchronous Data Input/Output", A2 DQg (io) "Synchronous Data Input/Output", A10 DQb (io) "Synchronous Data Input/Output", A11 DQb (io) "Synchronous Data Input/Output", B1 DQg (io) "Synchronous Data Input/Output", B2 DQg (io) "Synchronous Data Input/Output", B10 DQb (io) "Synchronous Data Input/Output", B11 DQb (io) "Synchronous Data Input/Output", C1 DQg (io) "Synchronous Data Input/Output", C2 DQg (io) "Synchronous Data Input/Output", C10 DQb (io) "Synchronous Data Input/Output", C11 DQb (io) "Synchronous Data Input/Output", D1 DQg (io) "Synchronous Data Input/Output", D2 DQg (io) "Synchronous Data Input/Output", D10 DQb (io) "Synchronous Data Input/Output", D11 DQb (io) "Synchronous Data Input/Output", E1 DQPg (io) "Parity Data I/O", E2 DQPc (io) "Parity Data I/O", E10 DQPf (io) "Parity Data I/O", E11 DQPb (io) "Parity Data I/O", F1 DQc (io) "Synchronous Data Input/Output", F2 DQc (io) "Synchronous Data Input/Output", F10 DQf (io) "Synchronous Data Input/Output", F11 DQf (io) "Synchronous Data Input/Output", G1 DQc (io) "Synchronous Data Input/Output", G2 DQc (io) "Synchronous Data Input/Output", G10 DQf (io) "Synchronous Data Input/Output", G11 DQf (io) "Synchronous Data Input/Output", H1 DQc (io) "Synchronous Data Input/Output", H2 DQc (io) "Synchronous Data Input/Output", H10 DQf (io) "Synchronous Data Input/Output", H11 DQf (io) "Synchronous Data Input/Output", J1 DQc (io) "Synchronous Data Input/Output", J2 DQc (io) "Synchronous Data Input/Output", J10 DQf (io) "Synchronous Data Input/Output", J11 DQf (io) "Synchronous Data Input/Output", L1 DQh (io) "Synchronous Data Input/Output", L2 DQh (io) "Synchronous Data Input/Output", L10 DQa (io) "Synchronous Data Input/Output", L11 DQa (io) "Synchronous Data Input/Output", M1 DQh (io) "Synchronous Data Input/Output", M2 DQh (io) "Synchronous Data Input/Output", M10 DQa (io) "Synchronous Data Input/Output", M11 DQa (io) "Synchronous Data Input/Output", N1 DQh (io) "Synchronous Data Input/Output", N2 DQh (io) "Synchronous Data Input/Output", N10 DQa (io) "Synchronous Data Input/Output", N11 DQa (io) "Synchronous Data Input/Output", P1 DQh (io) "Synchronous Data Input/Output", P2 DQh (io) "Synchronous Data Input/Output", P10 DQa (io) "Synchronous Data Input/Output", P11 DQa (io) "Synchronous Data Input/Output", R1 DQPd (io) "Parity Data I/O", R2 DQPh (io) "Parity Data I/O", R10 DQPa (io) "Parity Data I/O", R11 DQPe (io) "Parity Data I/O", T1 DQd (io) "Synchronous Data Input/Output", T2 DQd (io) "Synchronous Data Input/Output", T10 DQe (io) "Synchronous Data Input/Output", T11 DQe (io) "Synchronous Data Input/Output", U1 DQd (io) "Synchronous Data Input/Output", U2 DQd (io) "Synchronous Data Input/Output", U10 DQe (io) "Synchronous Data Input/Output", U11 DQe (io) "Synchronous Data Input/Output", V1 DQd (io) "Synchronous Data Input/Output", V2 DQd (io) "Synchronous Data Input/Output", V10 DQe (io) "Synchronous Data Input/Output", V11 DQe (io) "Synchronous Data Input/Output", W1 DQd (io) "Synchronous Data Input/Output", W2 DQd (io) "Synchronous Data Input/Output", W10 DQe (io) "Synchronous Data Input/Output", W11 DQe (io) "Synchronous Data Input/Output"
part C pins: D3 VSS (power) "Ground", D9 VSS (power) "Ground", E3 VDDQ (power) "Isolated Output Buffer Supply:3.3V/2.5V", E4 VDDQ (power) "Isolated Output Buffer Supply:3.3V/2.5V", E5 VDD (power) "3.3V/2.5V Power Supply", E6 VDD (power) "3.3V/2.5V Power Supply", E7 VDD (power) "3.3V/2.5V Power Supply", E8 VDDQ (power) "Isolated Output Buffer Supply:3.3V/2.5V", E9 VDDQ (power) "Isolated Output Buffer Supply:3.3V/2.5V", F3 VSS (power) "Ground", F4 VSS (power) "Ground", F5 VSS (power) "Ground", F7 VSS (power) "Ground", F8 VSS (power) "Ground", F9 VSS (power) "Ground", G3 VDDQ (power) "Isolated Output Buffer Supply:3.3V/2.5V", G4 VDDQ (power) "Isolated Output Buffer Supply:3.3V/2.5V", G5 VDD (power) "3.3V/2.5V Power Supply", G7 VDD (power) "3.3V/2.5V Power Supply", G8 VDDQ (power) "Isolated Output Buffer Supply:3.3V/2.5V", G9 VDDQ (power) "Isolated Output Buffer Supply:3.3V/2.5V", H3 VSS (power) "Ground", H4 VSS (power) "Ground", H5 VSS (power) "Ground", H7 VSS (power) "Ground", H8 VSS (power) "Ground", H9 VSS (power) "Ground", J3 VDDQ (power) "Isolated Output Buffer Supply:3.3V/2.5V", J4 VDDQ (power) "Isolated Output Buffer Supply:3.3V/2.5V", J5 VDD (power) "3.3V/2.5V Power Supply", J7 VDD (power) "3.3V/2.5V Power Supply", J8 VDDQ (power) "Isolated Output Buffer Supply:3.3V/2.5V", J9 VDDQ (power) "Isolated Output Buffer Supply:3.3V/2.5V", K5 VSS (power) "Ground", K7 VSS (power) "Ground", L3 VDDQ (power) "Isolated Output Buffer Supply:3.3V/2.5V", L4 VDDQ (power) "Isolated Output Buffer Supply:3.3V/2.5V", L5 VDD (power) "3.3V/2.5V Power Supply", L7 VDD (power) "3.3V/2.5V Power Supply", L8 VDDQ (power) "Isolated Output Buffer Supply:3.3V/2.5V", L9 VDDQ (power) "Isolated Output Buffer Supply:3.3V/2.5V", M3 VSS (power) "Ground", M4 VSS (power) "Ground", M5 VSS (power) "Ground", M7 VSS (power) "Ground", M8 VSS (power) "Ground", M9 VSS (power) "Ground", N3 VDDQ (power) "Isolated Output Buffer Supply:3.3V/2.5V", N4 VDDQ (power) "Isolated Output Buffer Supply:3.3V/2.5V", N5 VDD (power) "3.3V/2.5V Power Supply", N7 VDD (power) "3.3V/2.5V Power Supply", N8 VDDQ (power) "Isolated Output Buffer Supply:3.3V/2.5V", N9 VDDQ (power) "Isolated Output Buffer Supply:3.3V/2.5V", P3 VSS (power) "Ground", P4 VSS (power) "Ground", P5 VSS (power) "Ground", P7 VSS (power) "Ground", P8 VSS (power) "Ground", P9 VSS (power) "Ground", R3 VDDQ (power) "Isolated Output Buffer Supply:3.3V/2.5V", R4 VDDQ (power) "Isolated Output Buffer Supply:3.3V/2.5V", R5 VDD (power) "3.3V/2.5V Power Supply", R6 VDD (power) "3.3V/2.5V Power Supply", R7 VDD (power) "3.3V/2.5V Power Supply", R8 VDDQ (power) "Isolated Output Buffer Supply:3.3V/2.5V", R9 VDDQ (power) "Isolated Output Buffer Supply:3.3V/2.5V", T3 VSS (power) "Ground", T9 VSS (power) "Ground"
part D pins: B5 NC, C5 NC, C7 NC, D4 NC, D5 NC, D7 NC, D8 NC, F6 NC, G6 NC, H6 NC, J6 NC, K1 NC, K2 NC, K4 NC, K8 NC, K9 NC, K10 NC, K11 NC, L6 NC, M6 NC, N6 NC, T4 NC, T5 NC, T7 NC, T8 NC, U3 NC, U5 NC, U7 NC, U9 NC

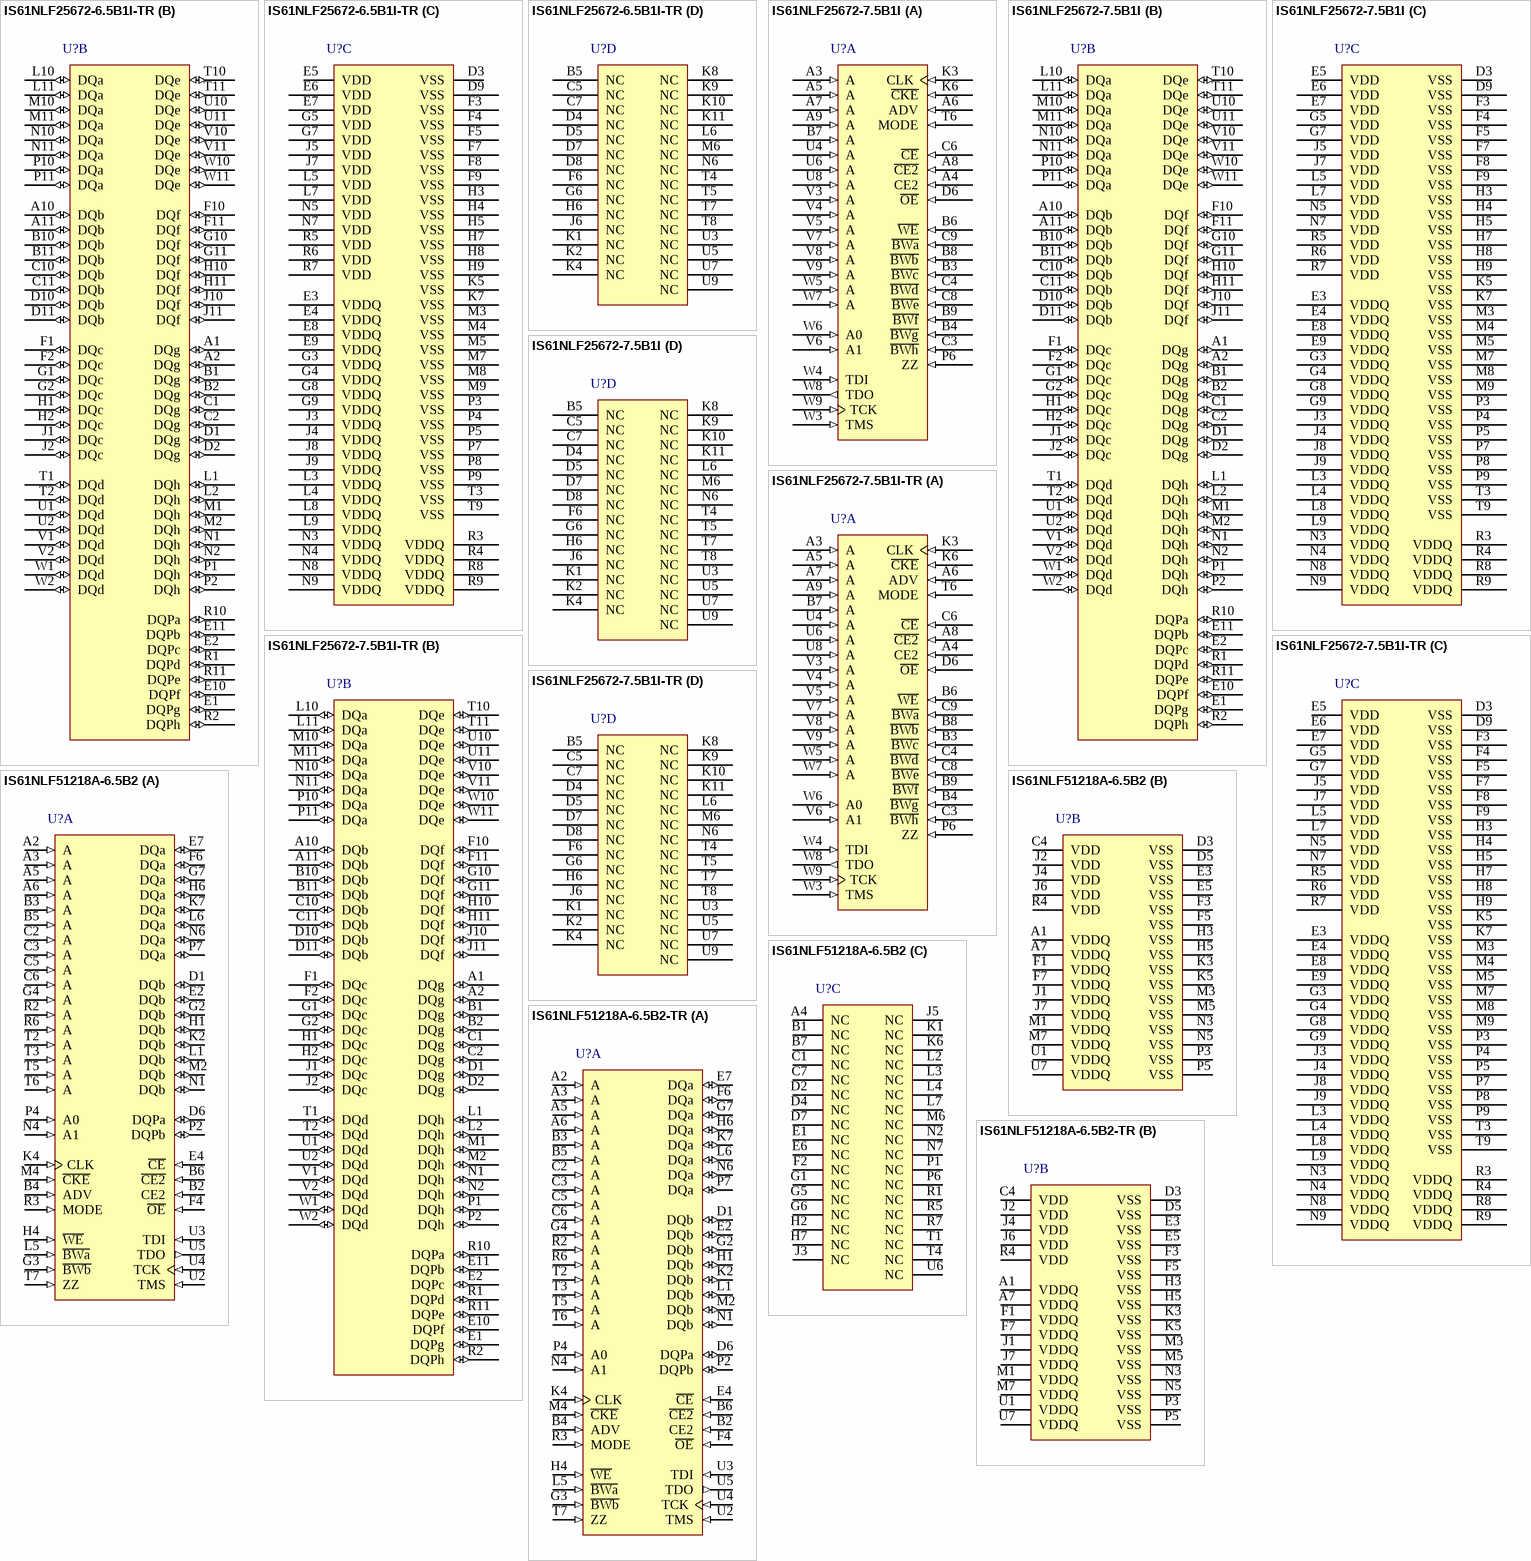
[diagram p44: symbols IS61NLF25672-6.5B1I-TR to IS61NLF51218A-6.5B2-TR]

## IS61NLF25672-6.5B1I-TR
designator U?
18 M Flow Through 'No Wait' State Bus SRAM, 256 K x 72, -40 to 85 degC, 209-Pin BGA (LF-BGA-209); Manufacturer: Integrated Silicon Solution Inc (ISSI); PartNumber: IS61NLF25672-6.5B1I-TR; Density: 18M; Packing: Tape & Reel; Vcc: 3.3 V; VccQ: 2.5 / 3.3 V; DatasheetVersion: Rev. D; PackageVersion: Rev. B, 12/2007; PackageReference: LF-BGA-209; PackageDescription: 209-Pin 14 x 22 mm LF-BGA, Pitch 1 mm; Supplier 1: Mouser; Supplier Part Number 1: N/A; Organization: 256Kx72; Mounting Technology: Surface Mount; ComponentLink1Description: Manufacturer URL; ComponentLink1URL: http://www.issi.com/US/index.shtml; ComponentLink2Description: Datasheet; ComponentLink2URL: http://www.issi.com/WW/pdf/61NLF_NVF25672_51236_102418.pdf; ComponentLink3Description: Package Specification; ComponentLink3URL: http://www.issi.com/WW/pdf/61NLF_NVF25672_51236_102418.pdf
footprint ISSI-LF-BGA-209-14000X22000DE (BGA, 209-Balls, Body 22x14mm, Pitch 1mm)
part A pins: A3 A (in) "Synchronous Address Input", A4 CE2 (in) "Synchronous Chip Enable", A5 A (in) "Synchronous Address Input", A6 ADV (in) "Synchronous Burst Address Advance", A7 A (in) "Synchronous Address Input", A8 ~{CE2} (in) "Synchronous Chip Enable", A9 A (in) "Synchronous Address Input", B3 ~{BWc} (in) "Synchronous Byte Write Enable", B4 ~{BWg} (in) "Synchronous Byte Write Enable", B6 ~{WE} (in) "Write Enable", B7 A (in) "Synchronous Address Input", B8 ~{BWb} (in) "Synchronous Byte Write Enable", B9 ~{BWf} (in) "Synchronous Byte Write Enable", C3 ~{BWh} (in) "Synchronous Byte Write Enable", C4 ~{BWd} (in) "Synchronous Byte Write Enable", C6 ~{CE} (in) "Synchronous Chip Enable", C8 ~{BWe} (in) "Synchronous Byte Write Enable", C9 ~{BWa} (in) "Synchronous Byte Write Enable", D6 ~{OE} (in) "Output Enable", K3 CLK (in) "Synchronous Clock", K6 ~{CKE} (in) "Clock Enable", P6 ZZ (in) "Snooze Enable", T6 MODE (in) "Burst Sequence Selection", U4 A (in) "Synchronous Address Input", U6 A (in) "Synchronous Address Input", U8 A (in) "Synchronous Address Input", V3 A (in) "Synchronous Address Input", V4 A (in) "Synchronous Address Input", V5 A (in) "Synchronous Address Input", V6 A1 (in) "Synchronous Address Input. This pin must tied to the two LSBs of the address bus.", V7 A (in) "Synchronous Address Input", V8 A (in) "Synchronous Address Input", V9 A (in) "Synchronous Address Input", W3 TMS (in) "JTAG Pin", W4 TDI (in) "JTAG Pin", W5 A (in) "Synchronous Address Input", W6 A0 (in) "Synchronous Address Input. This pin must tied to the two LSBs of the address bus.", W7 A (in) "Synchronous Address Input", W8 TDO (out) "JTAG Pin", W9 TCK (in) "JTAG Pin"
part B pins: A1 DQg (io) "Synchronous Data Input/Output", A2 DQg (io) "Synchronous Data Input/Output", A10 DQb (io) "Synchronous Data Input/Output", A11 DQb (io) "Synchronous Data Input/Output", B1 DQg (io) "Synchronous Data Input/Output", B2 DQg (io) "Synchronous Data Input/Output", B10 DQb (io) "Synchronous Data Input/Output", B11 DQb (io) "Synchronous Data Input/Output", C1 DQg (io) "Synchronous Data Input/Output", C2 DQg (io) "Synchronous Data Input/Output", C10 DQb (io) "Synchronous Data Input/Output", C11 DQb (io) "Synchronous Data Input/Output", D1 DQg (io) "Synchronous Data Input/Output", D2 DQg (io) "Synchronous Data Input/Output", D10 DQb (io) "Synchronous Data Input/Output", D11 DQb (io) "Synchronous Data Input/Output", E1 DQPg (io) "Parity Data I/O", E2 DQPc (io) "Parity Data I/O", E10 DQPf (io) "Parity Data I/O", E11 DQPb (io) "Parity Data I/O", F1 DQc (io) "Synchronous Data Input/Output", F2 DQc (io) "Synchronous Data Input/Output", F10 DQf (io) "Synchronous Data Input/Output", F11 DQf (io) "Synchronous Data Input/Output", G1 DQc (io) "Synchronous Data Input/Output", G2 DQc (io) "Synchronous Data Input/Output", G10 DQf (io) "Synchronous Data Input/Output", G11 DQf (io) "Synchronous Data Input/Output", H1 DQc (io) "Synchronous Data Input/Output", H2 DQc (io) "Synchronous Data Input/Output", H10 DQf (io) "Synchronous Data Input/Output", H11 DQf (io) "Synchronous Data Input/Output", J1 DQc (io) "Synchronous Data Input/Output", J2 DQc (io) "Synchronous Data Input/Output", J10 DQf (io) "Synchronous Data Input/Output", J11 DQf (io) "Synchronous Data Input/Output", L1 DQh (io) "Synchronous Data Input/Output", L2 DQh (io) "Synchronous Data Input/Output", L10 DQa (io) "Synchronous Data Input/Output", L11 DQa (io) "Synchronous Data Input/Output", M1 DQh (io) "Synchronous Data Input/Output", M2 DQh (io) "Synchronous Data Input/Output", M10 DQa (io) "Synchronous Data Input/Output", M11 DQa (io) "Synchronous Data Input/Output", N1 DQh (io) "Synchronous Data Input/Output", N2 DQh (io) "Synchronous Data Input/Output", N10 DQa (io) "Synchronous Data Input/Output", N11 DQa (io) "Synchronous Data Input/Output", P1 DQh (io) "Synchronous Data Input/Output", P2 DQh (io) "Synchronous Data Input/Output", P10 DQa (io) "Synchronous Data Input/Output", P11 DQa (io) "Synchronous Data Input/Output", R1 DQPd (io) "Parity Data I/O", R2 DQPh (io) "Parity Data I/O", R10 DQPa (io) "Parity Data I/O", R11 DQPe (io) "Parity Data I/O", T1 DQd (io) "Synchronous Data Input/Output", T2 DQd (io) "Synchronous Data Input/Output", T10 DQe (io) "Synchronous Data Input/Output", T11 DQe (io) "Synchronous Data Input/Output", U1 DQd (io) "Synchronous Data Input/Output", U2 DQd (io) "Synchronous Data Input/Output", U10 DQe (io) "Synchronous Data Input/Output", U11 DQe (io) "Synchronous Data Input/Output", V1 DQd (io) "Synchronous Data Input/Output", V2 DQd (io) "Synchronous Data Input/Output", V10 DQe (io) "Synchronous Data Input/Output", V11 DQe (io) "Synchronous Data Input/Output", W1 DQd (io) "Synchronous Data Input/Output", W2 DQd (io) "Synchronous Data Input/Output", W10 DQe (io) "Synchronous Data Input/Output", W11 DQe (io) "Synchronous Data Input/Output"
part C pins: D3 VSS (power) "Ground", D9 VSS (power) "Ground", E3 VDDQ (power) "Isolated Output Buffer Supply:3.3V/2.5V", E4 VDDQ (power) "Isolated Output Buffer Supply:3.3V/2.5V", E5 VDD (power) "3.3V/2.5V Power Supply", E6 VDD (power) "3.3V/2.5V Power Supply", E7 VDD (power) "3.3V/2.5V Power Supply", E8 VDDQ (power) "Isolated Output Buffer Supply:3.3V/2.5V", E9 VDDQ (power) "Isolated Output Buffer Supply:3.3V/2.5V", F3 VSS (power) "Ground", F4 VSS (power) "Ground", F5 VSS (power) "Ground", F7 VSS (power) "Ground", F8 VSS (power) "Ground", F9 VSS (power) "Ground", G3 VDDQ (power) "Isolated Output Buffer Supply:3.3V/2.5V", G4 VDDQ (power) "Isolated Output Buffer Supply:3.3V/2.5V", G5 VDD (power) "3.3V/2.5V Power Supply", G7 VDD (power) "3.3V/2.5V Power Supply", G8 VDDQ (power) "Isolated Output Buffer Supply:3.3V/2.5V", G9 VDDQ (power) "Isolated Output Buffer Supply:3.3V/2.5V", H3 VSS (power) "Ground", H4 VSS (power) "Ground", H5 VSS (power) "Ground", H7 VSS (power) "Ground", H8 VSS (power) "Ground", H9 VSS (power) "Ground", J3 VDDQ (power) "Isolated Output Buffer Supply:3.3V/2.5V", J4 VDDQ (power) "Isolated Output Buffer Supply:3.3V/2.5V", J5 VDD (power) "3.3V/2.5V Power Supply", J7 VDD (power) "3.3V/2.5V Power Supply", J8 VDDQ (power) "Isolated Output Buffer Supply:3.3V/2.5V", J9 VDDQ (power) "Isolated Output Buffer Supply:3.3V/2.5V", K5 VSS (power) "Ground", K7 VSS (power) "Ground", L3 VDDQ (power) "Isolated Output Buffer Supply:3.3V/2.5V", L4 VDDQ (power) "Isolated Output Buffer Supply:3.3V/2.5V", L5 VDD (power) "3.3V/2.5V Power Supply", L7 VDD (power) "3.3V/2.5V Power Supply", L8 VDDQ (power) "Isolated Output Buffer Supply:3.3V/2.5V", L9 VDDQ (power) "Isolated Output Buffer Supply:3.3V/2.5V", M3 VSS (power) "Ground", M4 VSS (power) "Ground", M5 VSS (power) "Ground", M7 VSS (power) "Ground", M8 VSS (power) "Ground", M9 VSS (power) "Ground", N3 VDDQ (power) "Isolated Output Buffer Supply:3.3V/2.5V", N4 VDDQ (power) "Isolated Output Buffer Supply:3.3V/2.5V", N5 VDD (power) "3.3V/2.5V Power Supply", N7 VDD (power) "3.3V/2.5V Power Supply", N8 VDDQ (power) "Isolated Output Buffer Supply:3.3V/2.5V", N9 VDDQ (power) "Isolated Output Buffer Supply:3.3V/2.5V", P3 VSS (power) "Ground", P4 VSS (power) "Ground", P5 VSS (power) "Ground", P7 VSS (power) "Ground", P8 VSS (power) "Ground", P9 VSS (power) "Ground", R3 VDDQ (power) "Isolated Output Buffer Supply:3.3V/2.5V", R4 VDDQ (power) "Isolated Output Buffer Supply:3.3V/2.5V", R5 VDD (power) "3.3V/2.5V Power Supply", R6 VDD (power) "3.3V/2.5V Power Supply", R7 VDD (power) "3.3V/2.5V Power Supply", R8 VDDQ (power) "Isolated Output Buffer Supply:3.3V/2.5V", R9 VDDQ (power) "Isolated Output Buffer Supply:3.3V/2.5V", T3 VSS (power) "Ground", T9 VSS (power) "Ground"
part D pins: B5 NC, C5 NC, C7 NC, D4 NC, D5 NC, D7 NC, D8 NC, F6 NC, G6 NC, H6 NC, J6 NC, K1 NC, K2 NC, K4 NC, K8 NC, K9 NC, K10 NC, K11 NC, L6 NC, M6 NC, N6 NC, T4 NC, T5 NC, T7 NC, T8 NC, U3 NC, U5 NC, U7 NC, U9 NC